# Altium footprint library HDR_2X3_2.0_Angled.PcbLib: 1 footprints
Each footprint in its own frame and in the unit in brackets; x right, y up, seen from the top. Pads: shape width x height; smd on the part's side, far side on the other; paste and mask are expansions set on the pad; w line width, h text height; cw(c..) or ccw(c..) is an arc to the next point about the centre after c.
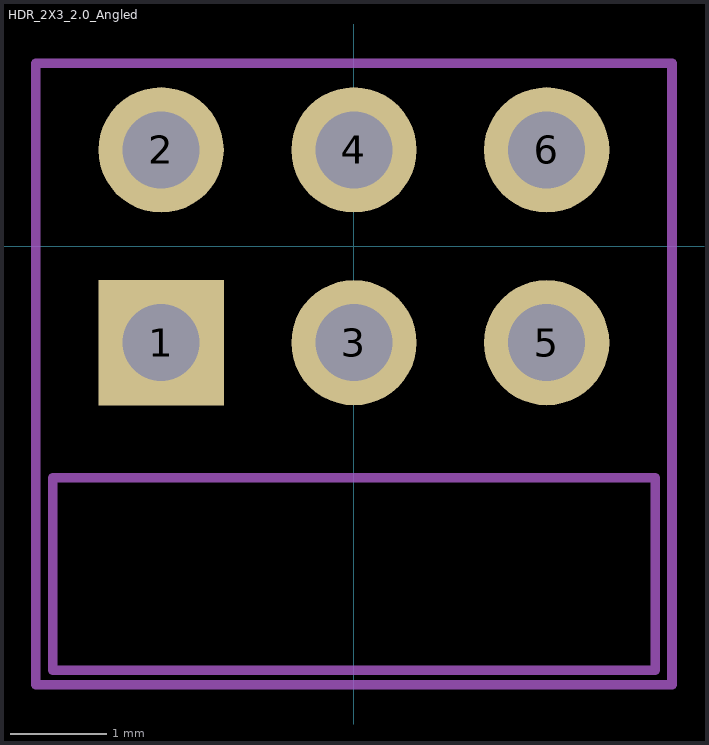
[diagram p0: the footprint, top view; thin cyan lines are the x and y axes]

## HDR_2X3_2.0_Angled [mm] "2X3  Pitch2.0mm Angled Dual Pin Header"
height 4
pads (6):
  rect 1.3x1.3 hole 0.8: 1(-2,-1)
  round 1.3 hole 0.8: 2(-2,1) 3(0,-1) 4(0,1) 5(2,-1) 6(2,1)
Mechanical 13:
  lines w0.1: -3.125,-4.4 -3.125,-2.4 3.125,-2.4 3.125,-4.4 -3.125,-4.4
Mechanical 15:
  lines w0.1: 3.3,-4.55 3.3,1.9 ; 3.302,-4.55 -3.3,-4.55 -3.3,1.9 3.302,1.9
3D body: height 3.25, standoff -4, extent -0.254,0.781 0.254,1.219
3D body: height 3.25, standoff -4, extent -2.27,0.797 -1.762,1.235
3D body: height 1.25, standoff -4, extent -0.254,-1.219 0.254,-0.781
3D body: height 1.25, standoff -4, extent -2.27,-1.2 -1.762,-0.762
3D body: height 3.25, standoff 2.75, extent -0.254,-8.05 0.254,1
3D body: height 3.25, standoff 2.75, extent -2.27,-8.05 -1.762,1.016
3D body: height 1.25, standoff 0.75, extent -0.254,-8.05 0.254,-1
3D body: height 4, standoff 0, extent -3.125,-4.4 3.099,-2.4
3D body: height 1.25, standoff 0.75, extent -2.27,-8.05 -1.762,-0.889
3D body: height 1.25, standoff 0.75, extent 1.746,-8.05 2.254,-1
3D body: height 3.25, standoff 2.75, extent 1.746,-8.05 2.254,1
3D body: height 1.25, standoff -4, extent 1.746,-1.219 2.254,-0.781
3D body: height 3.25, standoff -4, extent 1.746,0.781 2.254,1.219